# Altium footprint library Wei_PcbLib1.PcbLib: 49 footprints (part 4 of 4)
Each footprint in its own frame and in the unit in brackets; x right, y up, seen from the top. Pads: shape width x height; smd on the part's side, far side on the other; paste and mask are expansions set on the pad; w line width, h text height; cw(c..) or ccw(c..) is an arc to the next point about the centre after c.
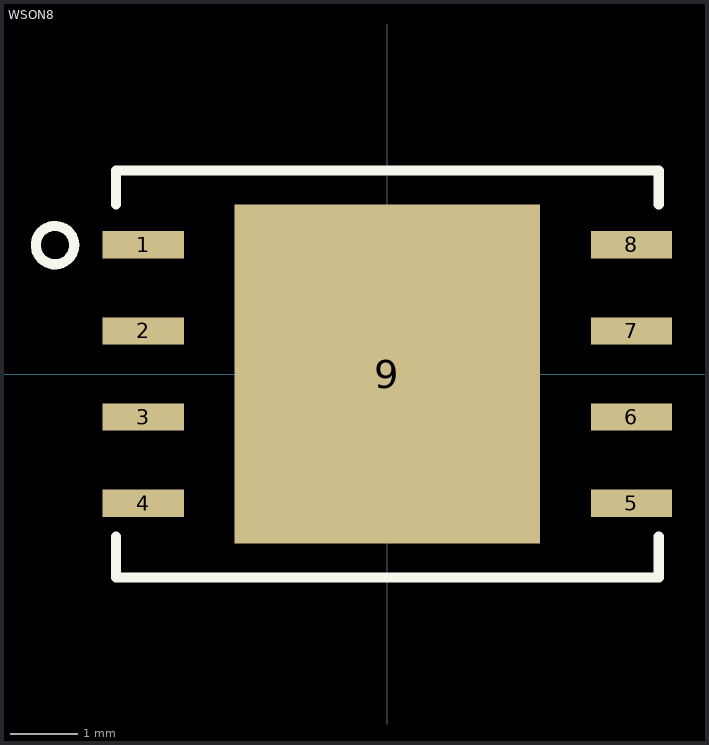
[diagram p3: the footprint, top view; thin cyan lines are the x and y axes]

## WSON8 [mm]
pads (9):
  rect 1.2x0.4 smd: 1(-3.6,1.905) 2(-3.6,0.635) 3(-3.6,-0.635) 4(-3.6,-1.905) 5(3.6,-1.905) 6(3.6,-0.635) 7(3.6,0.635) 8(3.6,1.905)
  rect 4.5x5 smd: 9(0,0)
Top Overlay:
  circle w0.15: c-4.9,1.9 r0.283
  lines w0.152: -4,-2.4 -4,-3 4,-3 4,-2.4 ; -4,2.5 -4,3 4,3 4,2.5